# EAGLE library part 2XUM (library Schalter_V12)
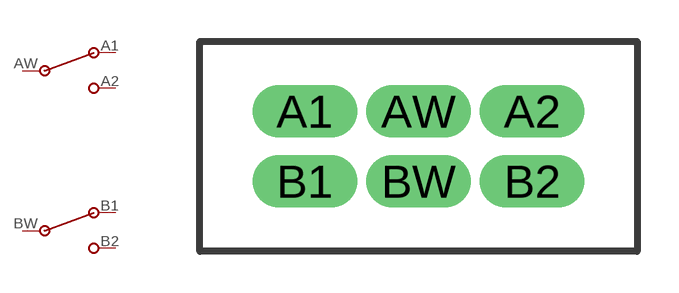
[diagram p3: symbol with the pads of 2XUM; footprint 2XUM]

Designator prefix S; gates A=2XUM B=2XUM

## 2XUM  [2XUM]
A1  A:1  pas
A2  A:2  pas
AW  A:W  pas
B1  B:1  pas
B2  B:2  pas
BW  B:W  pas

## Footprint 2XUM (pad centres in mm)
drill 0.61 pad 1.905 long: A1 -4.128,1.27; A2 4.128,1.27; AW 0,1.27; B1 -4.128,-1.27; B2 4.128,-1.27; BW 0,-1.27